# Altium schematic symbol library jointbar.SCHLIB: 71 symbols
Pins are listed as number, name and electrical type; pins without a type are passive.

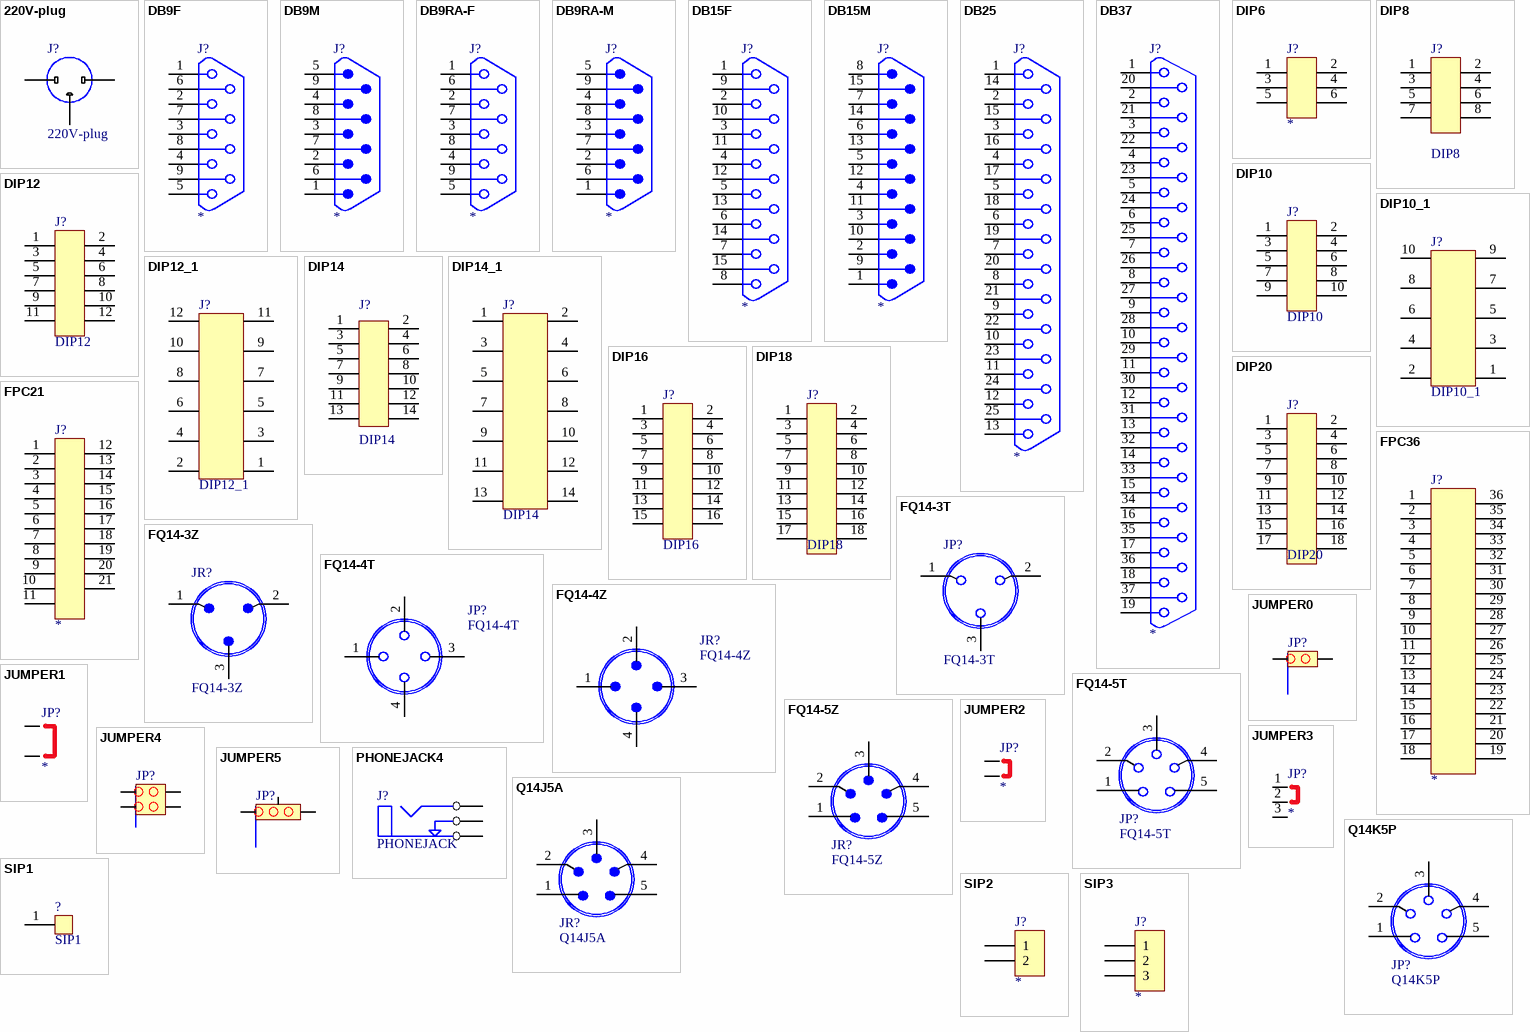
[diagram p0: symbols 220V-plug to SIP3]

## 220V-plug
designator J?
pins: 1, 2, 3

## DB9F
designator J?
jointbar
footprint DB9F
pins: 1, 2, 3, 4, 5, 6, 7, 8, 9

## DB9M
designator J?
jointbar
footprint DB9M
pins: 1 5, 2 4, 3, 4 2, 5 1, 6 9, 7 8, 8 7, 9 6

## DB9RA-F
designator J?
jointbar
footprint DB9RA-F
pins: 1, 2, 3, 4, 5, 6, 7, 8, 9

## DB9RA-M
designator J?
jointbar
footprint DB9RA-M
pins: 1 5, 2 4, 3, 4 2, 5 1, 6 9, 7 8, 8 7, 9 6

## DB15F
designator J?
jointbar
footprint DB15F
pins: 1, 2, 3, 4, 5, 6, 7, 8, 9, 10, 11, 12, 13, 14, 15

## DB15M
designator J?
jointbar
footprint DB15M
pins: 1, 2, 3, 4, 5, 6, 7, 8, 9, 10, 11, 12, 13, 14, 15

## DB25
designator J?
footprint DB-25/M
pins: 1, 2, 3, 4, 5, 6, 7, 8, 9, 10, 11, 12, 13, 14, 15, 16, 17, 18, 19, 20, 21, 22, 23, 24, 25

## DB37
designator J?
footprint DB-37/M
pins: 1, 2, 3, 4, 5, 6, 7, 8, 9, 10, 11, 12, 13, 14, 15, 16, 17, 18, 19, 20, 21, 22, 23, 24, 25, 26, 27, 28, 29, 30, 31, 32, 33, 34, 35, 36, 37

## DIP6
designator J?
jointbar
footprint DIP6-2.54
pins: 1, 2, 3, 4, 5, 6

## DIP8
designator J?
Connectors; Set Position: 0.5; Published: 8-Jun-2000; LatestRevisionDate: 17-Jul-2002; LatestRevisionNote: Re-released for DXP Platform.; PackageReference: AXIAL-0.6; Publisher: Altium Limited
footprint DIP8-2.54 (Footprint not found)
pins: 1, 2, 3, 4, 5, 6, 7, 8

## DIP10
designator J?
Connectors; Set Position: 0.5; Published: 8-Jun-2000; LatestRevisionDate: 17-Jul-2002; LatestRevisionNote: Re-released for DXP Platform.; PackageReference: AXIAL-0.6; Publisher: Altium Limited
footprint DIP10-2.54
pins: 1, 2, 3, 4, 5, 6, 7, 8, 9, 10

## DIP10_1
designator J?
Connectors; Set Position: 0.5; Published: 8-Jun-2000; LatestRevisionDate: 17-Jul-2002; LatestRevisionNote: Re-released for DXP Platform.; PackageReference: AXIAL-0.6; Publisher: Altium Limited
simulation model VRES (Variable Resistor)
signal-integrity model Res Adj
footprint DIP14-2.54
pins: 1, 2, 3, 4, 5, 6, 7, 8, 9, 10

## DIP12
designator J?
Connectors; Set Position: 0.5; Published: 8-Jun-2000; LatestRevisionDate: 17-Jul-2002; LatestRevisionNote: Re-released for DXP Platform.; PackageReference: AXIAL-0.6; Publisher: Altium Limited
simulation model VRES (Variable Resistor)
signal-integrity model Res Adj
footprint DIP12-2.54
pins: 1, 2, 3, 4, 5, 6, 7, 8, 9, 10, 11, 12

## DIP12_1
designator J?
Connectors; Set Position: 0.5; Published: 8-Jun-2000; LatestRevisionDate: 17-Jul-2002; LatestRevisionNote: Re-released for DXP Platform.; PackageReference: AXIAL-0.6; Publisher: Altium Limited
simulation model VRES (Variable Resistor)
signal-integrity model Res Adj
footprint DIP14-2.54
pins: 1, 2, 3, 4, 5, 6, 7, 8, 9, 10, 11, 12

## DIP14
designator J?
Connectors; Set Position: 0.5; Published: 8-Jun-2000; LatestRevisionDate: 17-Jul-2002; LatestRevisionNote: Re-released for DXP Platform.; PackageReference: AXIAL-0.6; Publisher: Altium Limited
simulation model VRES (Variable Resistor)
signal-integrity model Res Adj
footprint DIP14-2.54
pins: 1, 2, 3, 4, 5, 6, 7, 8, 9, 10, 11, 12, 13, 14

## DIP14_1
designator J?, comment DIP14
Connectors; Set Position: 0.5; Published: 8-Jun-2000; LatestRevisionDate: 17-Jul-2002; LatestRevisionNote: Re-released for DXP Platform.; PackageReference: AXIAL-0.6; Publisher: Altium Limited
simulation model VRES (Variable Resistor)
signal-integrity model Res Adj
footprint DIP14-2.54
pins: 1, 2, 3, 4, 5, 6, 7, 8, 9, 10, 11, 12, 13, 14

## DIP16
designator J?
Connectors; Set Position: 0.5; Published: 8-Jun-2000; LatestRevisionDate: 17-Jul-2002; LatestRevisionNote: Re-released for DXP Platform.; PackageReference: AXIAL-0.6; Publisher: Altium Limited
simulation model VRES (Variable Resistor)
signal-integrity model Res Adj
footprint DIP16-2.54
pins: 1, 2, 3, 4, 5, 6, 7, 8, 9, 10, 11, 12, 13, 14, 15, 16

## DIP18
designator J?
Connectors; Set Position: 0.5; Published: 8-Jun-2000; LatestRevisionDate: 17-Jul-2002; LatestRevisionNote: Re-released for DXP Platform.; PackageReference: AXIAL-0.6; Publisher: Altium Limited
simulation model VRES (Variable Resistor)
signal-integrity model Res Adj
footprint DIP18-2.54 (Footprint not found)
pins: 1, 2, 3, 4, 5, 6, 7, 8, 9, 10, 11, 12, 13, 14, 15, 16, 17, 18

## DIP20
designator J?
Connectors; Set Position: 0.5; Published: 8-Jun-2000; LatestRevisionDate: 17-Jul-2002; LatestRevisionNote: Re-released for DXP Platform.; PackageReference: AXIAL-0.6; Publisher: Altium Limited
simulation model VRES (Variable Resistor)
signal-integrity model Res Adj
footprint DIP20-2.54
pins: 1, 2, 3, 4, 5, 6, 7, 8, 9, 10, 11, 12, 13, 14, 15, 16, 17, 18

## FPC21
designator J?
jointbar
footprint FPC21-0.5
pins: 1, 2, 3, 4, 5, 6, 7, 8, 9, 10  10, 11  11, 12, 13, 14, 15, 16, 17, 18, 19, 20, 21

## FPC36
designator J?
jointbar
footprint FPC36-0.8
pins: 1, 2, 3, 4, 5, 6, 7, 8, 9, 10, 11, 12, 13, 14, 15, 16, 17, 18, 19, 20, 21, 22, 23, 24, 25, 26, 27, 28, 29, 30, 31, 32, 33, 34, 35, 36

## FQ14-3T
designator JP?
Connectors; Set Position: 0.5; Published: 8-Jun-2000; LatestRevisionDate: 17-Jul-2002; LatestRevisionNote: Re-released for DXP Platform.; PackageReference: AXIAL-0.6; Publisher: Altium Limited
footprint AXIAL-0.6 (Variable Resistor; 2 Leads)
simulation model VRES (Variable Resistor)
signal-integrity model Res Adj
pins: 1, 2, 3

## FQ14-3Z
designator JR?
Connectors; Set Position: 0.5; Published: 8-Jun-2000; LatestRevisionDate: 17-Jul-2002; LatestRevisionNote: Re-released for DXP Platform.; PackageReference: AXIAL-0.6; Publisher: Altium Limited
footprint AXIAL-0.6 (Variable Resistor; 2 Leads)
simulation model VRES (Variable Resistor)
signal-integrity model Res Adj
pins: 1, 2, 3

## FQ14-4T
designator JP?
connectors; Set Position: 0.5; Published: 8-Jun-2000; LatestRevisionDate: 17-Jul-2002; LatestRevisionNote: Re-released for DXP Platform.; PackageReference: AXIAL-0.6; Publisher: Altium Limited
footprint AXIAL-0.6 (Variable Resistor; 2 Leads)
simulation model VRES (Variable Resistor)
signal-integrity model Res Adj
pins: 1, 2, 3, 4

## FQ14-4Z
designator JR?
connectors; Set Position: 0.5; Published: 8-Jun-2000; LatestRevisionDate: 17-Jul-2002; LatestRevisionNote: Re-released for DXP Platform.; PackageReference: AXIAL-0.6; Publisher: Altium Limited
footprint AXIAL-0.6 (Variable Resistor; 2 Leads)
simulation model VRES (Variable Resistor)
signal-integrity model Res Adj
pins: 1, 2, 3, 4

## FQ14-5T
designator JP?
connectors; Set Position: 0.5; Published: 8-Jun-2000; LatestRevisionDate: 17-Jul-2002; LatestRevisionNote: Re-released for DXP Platform.; PackageReference: AXIAL-0.6; Publisher: Altium Limited
footprint AXIAL-0.6 (Variable Resistor; 2 Leads)
simulation model VRES (Variable Resistor)
signal-integrity model Res Adj
pins: 1, 2, 3, 4, 5

## FQ14-5Z
designator JR?
connectors; Set Position: 0.5; Published: 8-Jun-2000; LatestRevisionDate: 17-Jul-2002; LatestRevisionNote: Re-released for DXP Platform.; PackageReference: AXIAL-0.6; Publisher: Altium Limited
footprint AXIAL-0.6 (Variable Resistor; 2 Leads)
simulation model VRES (Variable Resistor)
signal-integrity model Res Adj
pins: 1, 2, 3, 4, 5

## JUMPER0
designator JP?
footprint SIP2-2.54
pins: 1, 2

## JUMPER1
designator JP?
Jumper
footprint RAD0.2
pins: 1, 2

## JUMPER2
designator JP?
Jumper
footprint RAD0.2
pins: 1, 2

## JUMPER3
designator JP?
Jumper
footprint SIP3-2.54
pins: 1, 2, 3

## JUMPER4
designator JP?
footprint DIP4-2.54 (Footprint not found)
pins: 1, 2, 3, 4

## JUMPER5
designator JP?
footprint SIP3-2.54
pins: 1, 2, 3

## PHONEJACK4
designator J?, comment PHONEJACK
footprint DS-313
pins: 1 A, 2 B, 3 C

## Q14J5A
designator JR?
connectors; Set Position: 0.5; Published: 8-Jun-2000; LatestRevisionDate: 17-Jul-2002; LatestRevisionNote: Re-released for DXP Platform.; PackageReference: AXIAL-0.6; Publisher: Altium Limited
footprint AXIAL-0.6 (Variable Resistor; 2 Leads)
simulation model VRES (Variable Resistor)
signal-integrity model Res Adj
pins: 1, 2, 3, 4, 5

## Q14K5P
designator JP?
connectors; Set Position: 0.5; Published: 8-Jun-2000; LatestRevisionDate: 17-Jul-2002; LatestRevisionNote: Re-released for DXP Platform.; PackageReference: AXIAL-0.6; Publisher: Altium Limited
footprint AXIAL-0.6 (Variable Resistor; 2 Leads)
simulation model VRES (Variable Resistor)
signal-integrity model Res Adj
pins: 1, 2, 3, 4, 5

## SIP1
designator ?
Variable Resistor; Set Position: 0.5; Published: 8-Jun-2000; LatestRevisionDate: 17-Jul-2002; LatestRevisionNote: Re-released for DXP Platform.; PackageReference: AXIAL-0.6; Publisher: Altium Limited
footprint AXIAL-0.6 (Variable Resistor; 2 Leads)
simulation model VRES (Variable Resistor)
signal-integrity model Res Adj
pins: 1

## SIP2
designator J?
jointbar
footprint SIP2-2.0
footprint SIP2-2.54
pins: 1, 2

## SIP3
designator J?
jointbar
footprint SIP3-2.0
footprint SIP3-2.54
pins: 1, 2, 3

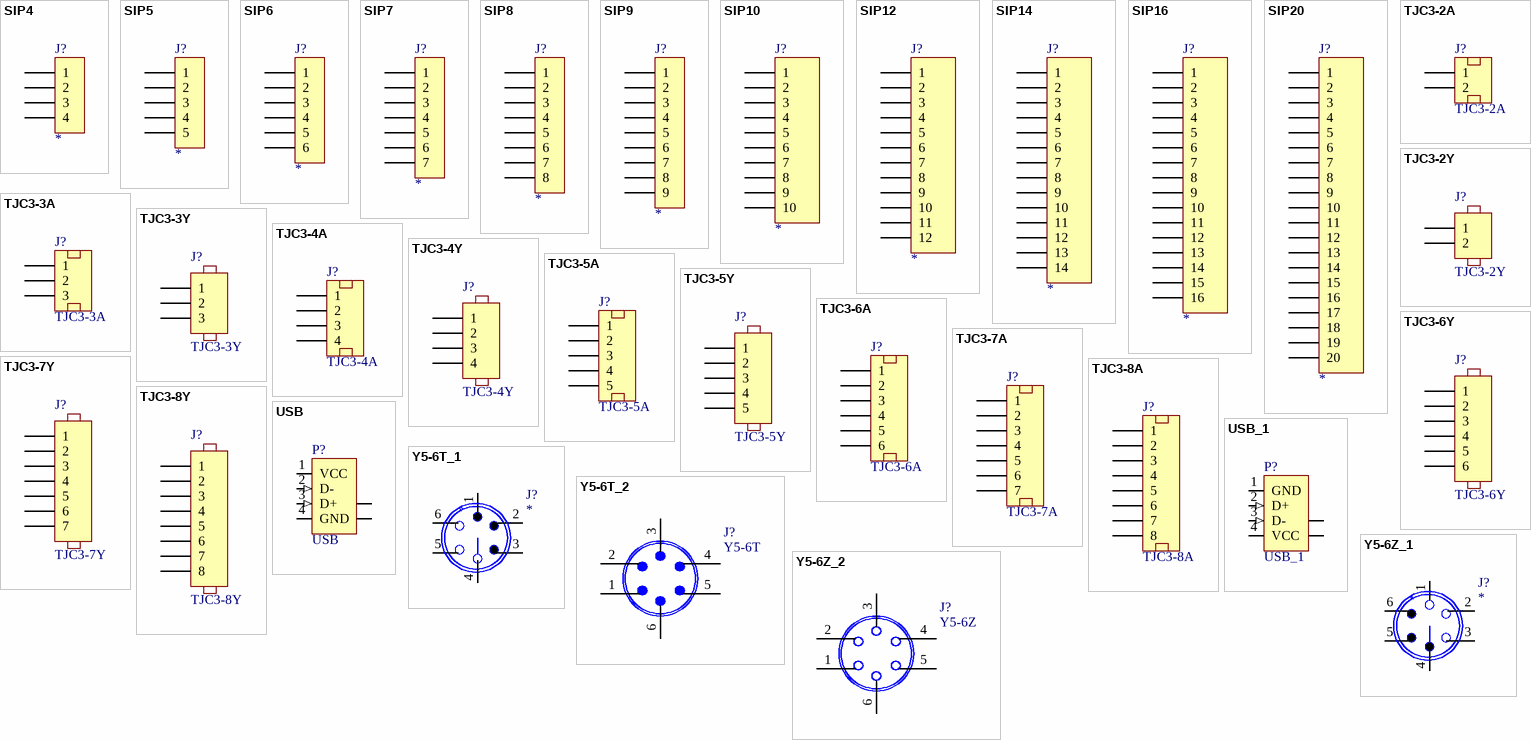
[diagram p1: symbols SIP4 to Y5-6Z_2]

## SIP4
designator J?
jointbar
footprint SIP4-2.0
footprint SIP4-2.54
pins: 1, 2, 3, 4

## SIP5
designator J?
jointbar
footprint SIP5-2.0
footprint SIP5-2.54
pins: 1, 2, 3, 4, 5

## SIP6
designator J?
jointbar
footprint SIP6-2.0
footprint SIP6-2.54
pins: 1, 2, 3, 4, 5, 6

## SIP7
designator J?
jointbar
footprint SIP7-2.0
footprint SIP7-2.54
pins: 1, 2, 3, 4, 5, 6, 7

## SIP8
designator J?
jointbar
footprint SIP8-2.0
footprint SIP8-2.54
pins: 1, 2, 3, 4, 5, 6, 7, 8

## SIP9
designator J?
jointbar
footprint SIP9-2.0
footprint SIP9-2.54
pins: 1, 2, 3, 4, 5, 6, 7, 8, 9

## SIP10
designator J?
jointbar
footprint SIP10-2.54
pins: 1, 2, 3, 4, 5, 6, 7, 8, 9, 10

## SIP12
designator J?
jointbar
footprint SIP12-2.54
pins: 1, 2, 3, 4, 5, 6, 7, 8, 9, 10, 11, 12

## SIP14
designator J?
jointbar
footprint SIP14-2.54
pins: 1, 2, 3, 4, 5, 6, 7, 8, 9, 10, 11, 12, 13, 14

## SIP16
designator J?
jointbar
footprint SIP16-2.54
pins: 1, 2, 3, 4, 5, 6, 7, 8, 9, 10, 11, 12, 13, 14, 15, 16

## SIP20
designator J?
jointbar
footprint SIP20-2.54
pins: 1, 2, 3, 4, 5, 6, 7, 8, 9, 10, 11, 12, 13, 14, 15, 16, 17, 18, 19, 20

## TJC3-2A
designator J?
Set Position: 0.5; Published: 8-Jun-2000; LatestRevisionDate: 17-Jul-2002; LatestRevisionNote: Re-released for DXP Platform.; PackageReference: AXIAL-0.6; Publisher: Altium Limited
simulation model VRES (Variable Resistor)
signal-integrity model Res Adj
footprint TJC3-2A
pins: 1, 2

## TJC3-2Y
designator J?
Set Position: 0.5; Published: 8-Jun-2000; LatestRevisionDate: 17-Jul-2002; LatestRevisionNote: Re-released for DXP Platform.; PackageReference: AXIAL-0.6; Publisher: Altium Limited
footprint AXIAL-0.6 (Variable Resistor; 2 Leads)
simulation model VRES (Variable Resistor)
signal-integrity model Res Adj
pins: 1, 2

## TJC3-3A
designator J?
Set Position: 0.5; Published: 8-Jun-2000; LatestRevisionDate: 17-Jul-2002; LatestRevisionNote: Re-released for DXP Platform.; PackageReference: AXIAL-0.6; Publisher: Altium Limited
simulation model VRES (Variable Resistor)
signal-integrity model Res Adj
footprint TJC3-3A
pins: 1, 2, 3

## TJC3-3Y
designator J?
Set Position: 0.5; Published: 8-Jun-2000; LatestRevisionDate: 17-Jul-2002; LatestRevisionNote: Re-released for DXP Platform.; PackageReference: AXIAL-0.6; Publisher: Altium Limited
footprint AXIAL-0.6 (Variable Resistor; 2 Leads)
simulation model VRES (Variable Resistor)
signal-integrity model Res Adj
pins: 1, 2, 3

## TJC3-4A
designator J?
Set Position: 0.5; Published: 8-Jun-2000; LatestRevisionDate: 17-Jul-2002; LatestRevisionNote: Re-released for DXP Platform.; PackageReference: AXIAL-0.6; Publisher: Altium Limited
simulation model VRES (Variable Resistor)
signal-integrity model Res Adj
footprint TJC3-4A
pins: 1, 2, 3, 4

## TJC3-4Y
designator J?
Set Position: 0.5; Published: 8-Jun-2000; LatestRevisionDate: 17-Jul-2002; LatestRevisionNote: Re-released for DXP Platform.; PackageReference: AXIAL-0.6; Publisher: Altium Limited
footprint AXIAL-0.6 (Variable Resistor; 2 Leads)
simulation model VRES (Variable Resistor)
signal-integrity model Res Adj
pins: 1, 2, 3, 4

## TJC3-5A
designator J?
Set Position: 0.5; Published: 8-Jun-2000; LatestRevisionDate: 17-Jul-2002; LatestRevisionNote: Re-released for DXP Platform.; PackageReference: AXIAL-0.6; Publisher: Altium Limited
simulation model VRES (Variable Resistor)
signal-integrity model Res Adj
footprint TJC3-5A
pins: 1, 2, 3, 4, 5

## TJC3-5Y
designator J?
Set Position: 0.5; Published: 8-Jun-2000; LatestRevisionDate: 17-Jul-2002; LatestRevisionNote: Re-released for DXP Platform.; PackageReference: AXIAL-0.6; Publisher: Altium Limited
footprint AXIAL-0.6 (Variable Resistor; 2 Leads)
simulation model VRES (Variable Resistor)
signal-integrity model Res Adj
pins: 1, 2, 3, 4, 5

## TJC3-6A
designator J?
Set Position: 0.5; Published: 8-Jun-2000; LatestRevisionDate: 17-Jul-2002; LatestRevisionNote: Re-released for DXP Platform.; PackageReference: AXIAL-0.6; Publisher: Altium Limited
simulation model VRES (Variable Resistor)
signal-integrity model Res Adj
footprint TJC3-6A
pins: 1, 2, 3, 4, 5, 6

## TJC3-6Y
designator J?
Set Position: 0.5; Published: 8-Jun-2000; LatestRevisionDate: 17-Jul-2002; LatestRevisionNote: Re-released for DXP Platform.; PackageReference: AXIAL-0.6; Publisher: Altium Limited
footprint AXIAL-0.6 (Variable Resistor; 2 Leads)
simulation model VRES (Variable Resistor)
signal-integrity model Res Adj
pins: 1, 2, 3, 4, 5, 6

## TJC3-7A
designator J?
Set Position: 0.5; Published: 8-Jun-2000; LatestRevisionDate: 17-Jul-2002; LatestRevisionNote: Re-released for DXP Platform.; PackageReference: AXIAL-0.6; Publisher: Altium Limited
simulation model VRES (Variable Resistor)
signal-integrity model Res Adj
footprint TJC3-7A
pins: 1, 2, 3, 4, 5, 6, 7

## TJC3-7Y
designator J?
Set Position: 0.5; Published: 8-Jun-2000; LatestRevisionDate: 17-Jul-2002; LatestRevisionNote: Re-released for DXP Platform.; PackageReference: AXIAL-0.6; Publisher: Altium Limited
footprint AXIAL-0.6 (Variable Resistor; 2 Leads)
simulation model VRES (Variable Resistor)
signal-integrity model Res Adj
pins: 1, 2, 3, 4, 5, 6, 7

## TJC3-8A
designator J?
Set Position: 0.5; Published: 8-Jun-2000; LatestRevisionDate: 17-Jul-2002; LatestRevisionNote: Re-released for DXP Platform.; PackageReference: AXIAL-0.6; Publisher: Altium Limited
footprint AXIAL-0.6 (Variable Resistor; 2 Leads)
simulation model VRES (Variable Resistor)
signal-integrity model Res Adj
pins: 1, 2, 3, 4, 5, 6, 7, 8

## TJC3-8Y
designator J?
Set Position: 0.5; Published: 8-Jun-2000; LatestRevisionDate: 17-Jul-2002; LatestRevisionNote: Re-released for DXP Platform.; PackageReference: AXIAL-0.6; Publisher: Altium Limited
footprint AXIAL-0.6 (Variable Resistor; 2 Leads)
simulation model VRES (Variable Resistor)
signal-integrity model Res Adj
pins: 1, 2, 3, 4, 5, 6, 7, 8

## USB
designator P?
USB 1.1, Right Angle, SMT, A Type, Plug, 4 Position, Natural; ContactMaterial: Brass; ContactPlating: Gold (30) over Nickel (50); PCB_Layout: Complies with manufacturer's recommendation.; DrillSize: Corresponds to nominal value.; PanelGround: Without; Published: 15-Jul-2004; DatasheetDocument: 21-Jan-2003; PackageDocument: 21-Jan-2003; PackageReference: 1470695A; Publisher: Altium Limited; HousingMaterial: Thermoplastic; ComponentLink1Description: Manufacturer Link; ComponentLink1URL: http://www.tycoelectronics.com/; ComponentLink2Description: Packaging Specification; ComponentLink2URL: http://ecommas.tycoelectronics.com/commerce/DocumentDelivery/DDEController?Action=showdoc&DocId=Customer+Drawing%7F1470695%7FO%7Fpdf%7FEnglish%7FC_1470695_O.pdf
footprint USB01 (Connector; USB1.1, Type A, SM; 4 Position; Right Angle)
signal-integrity model USB1.1
pins: 1 VCC (power) "Power", 2 D- (in) "-DATA", 3 D+ (in) "+DATA", 4 GND (power) "Ground", 5 SHLD "Shield", 6 SHLD "Shield"

## USB_1
designator P?
USB 1.1, Right Angle, SMT, A Type, Plug, 4 Position, Natural; ContactMaterial: Brass; ContactPlating: Gold (30) over Nickel (50); PCB_Layout: Complies with manufacturer's recommendation.; DrillSize: Corresponds to nominal value.; PanelGround: Without; Published: 15-Jul-2004; DatasheetDocument: 21-Jan-2003; PackageDocument: 21-Jan-2003; PackageReference: 1470695A; Publisher: Altium Limited; HousingMaterial: Thermoplastic; ComponentLink1Description: Manufacturer Link; ComponentLink1URL: http://www.tycoelectronics.com/; ComponentLink2Description: Packaging Specification; ComponentLink2URL: http://ecommas.tycoelectronics.com/commerce/DocumentDelivery/DDEController?Action=showdoc&DocId=Customer+Drawing%7F1470695%7FO%7Fpdf%7FEnglish%7FC_1470695_O.pdf
footprint USB01 (Connector; USB1.1, Type A, SM; 4 Position; Right Angle)
signal-integrity model USB1.1
pins: 1 GND (power) "Power", 2 D+ (in) "-DATA", 3 D- (in) "+DATA", 4 VCC (power) "Ground", 5 SHLD "Shield", 6 SHLD "Shield"

## Y5-6T_1
designator J?
jointbar
pins: 1, 2, 3, 4, 5, 6

## Y5-6T_2
designator J?, comment Y5-6T
Set Position: 0.5; Published: 8-Jun-2000; LatestRevisionDate: 17-Jul-2002; LatestRevisionNote: Re-released for DXP Platform.; PackageReference: AXIAL-0.6; Publisher: Altium Limited
footprint AXIAL-0.6 (Variable Resistor; 2 Leads)
simulation model VRES (Variable Resistor)
signal-integrity model Res Adj
pins: 1, 2, 3, 4, 5, 6

## Y5-6Z_1
designator J?
jointbar
pins: 1, 2, 3, 4, 5, 6

## Y5-6Z_2
designator J?, comment Y5-6Z
Set Position: 0.5; Published: 8-Jun-2000; LatestRevisionDate: 17-Jul-2002; LatestRevisionNote: Re-released for DXP Platform.; PackageReference: AXIAL-0.6; Publisher: Altium Limited
footprint AXIAL-0.6 (Variable Resistor; 2 Leads)
simulation model VRES (Variable Resistor)
signal-integrity model Res Adj
pins: 1, 2, 3, 4, 5, 6